# Altium footprint library Mini USB.PcbLib: 1 footprints
Each footprint in its own frame and in the unit in brackets; x right, y up, seen from the top. Pads: shape width x height; smd on the part's side, far side on the other; paste and mask are expansions set on the pad; w line width, h text height; cw(c..) or ccw(c..) is an arc to the next point about the centre after c.
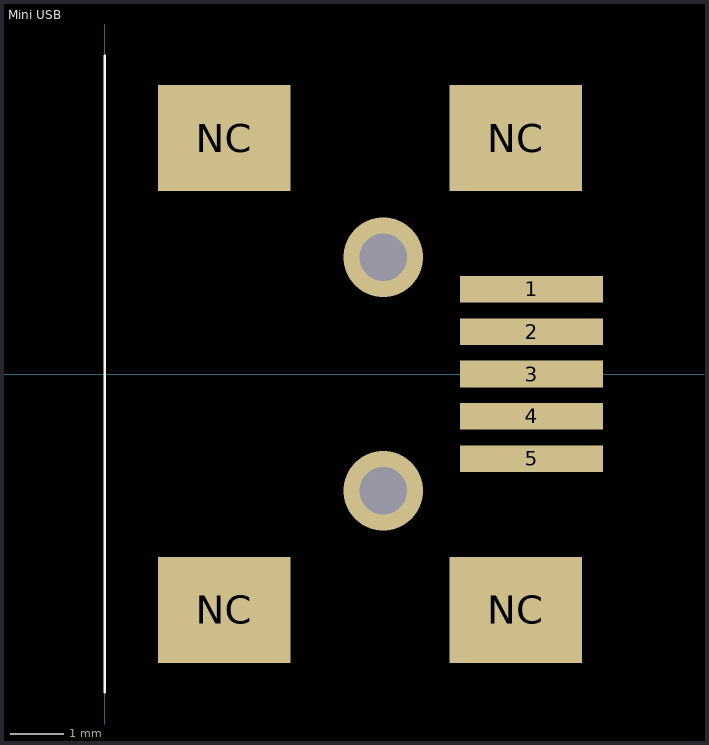
[diagram p0: the footprint, top view; thin cyan lines are the x and y axes]

## Mini USB [mm] "Digikey http://search.digikey.com/us/en/products/1734035-2/A31727CT-ND/773789"
pads (9):
  rect 2.7x0.5 smd: 1(8.05,1.6) 2(8.05,0.8) 3(8.05,0) 4(8.05,-0.8) 5(8.05,-1.6)
  rect 2.5x2 smd: NC(2.25,-4.45) NC(2.25,4.45) NC(7.75,-4.45) NC(7.75,4.45)
via 5.25,2.2 diameter 1.5 hole 0.9
via 5.25,-2.2 diameter 1.5 hole 0.9
Top Overlay:
  lines w0.05: 0,-6 0,6